# Altium footprint library OpenVizsla footprints.PcbLib: 47 footprints (part 1 of 3)
Each footprint in its own frame and in the unit in brackets; x right, y up, seen from the top. Pads: shape width x height; smd on the part's side, far side on the other; paste and mask are expansions set on the pad; w line width, h text height; cw(c..) or ccw(c..) is an arc to the next point about the centre after c.
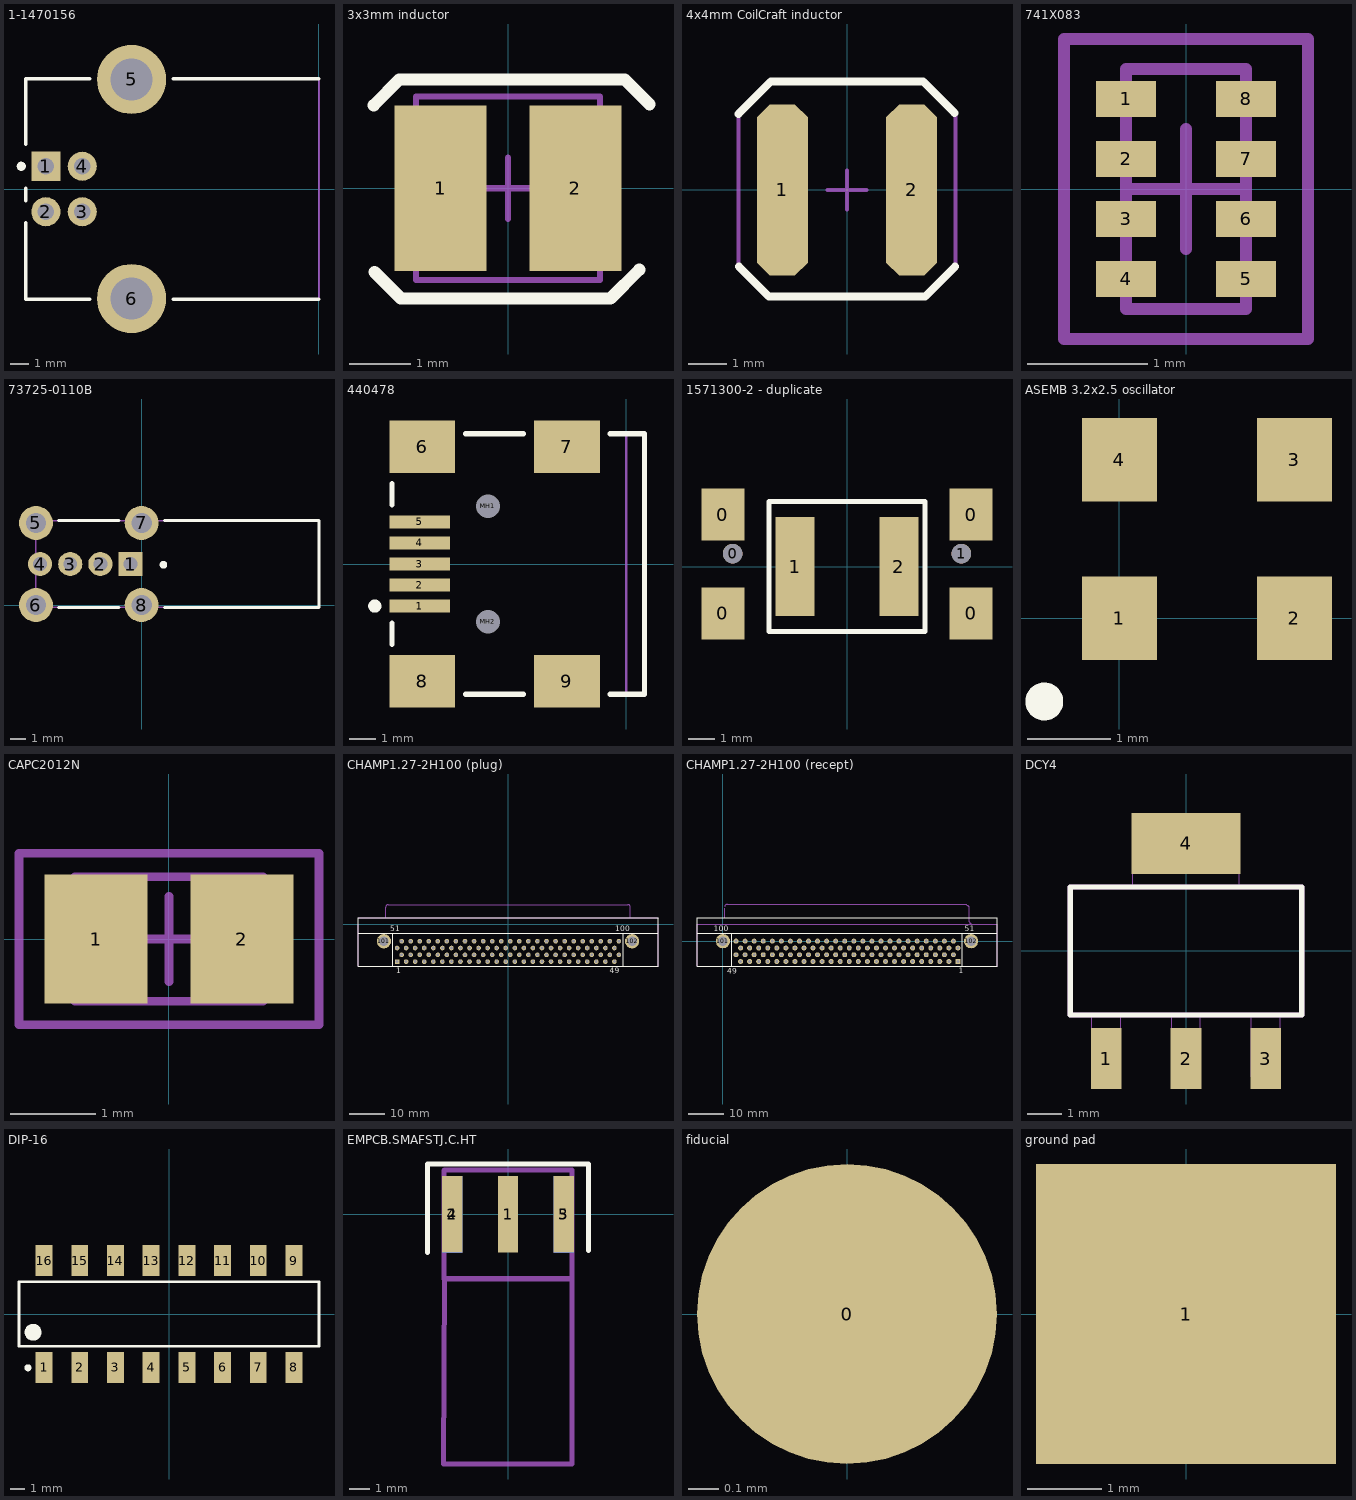
[diagram p0: the footprints below, top view; thin cyan lines are the x and y axes]

## 1-1470156 [mm] "Connector; USB1.1, Type B, Thru-Hole; 4 Position; Right Angle"
height 10.95
pads (6):
  rect 1.6x1.6 hole 0.92: 1(-15.01,1.25)
  round 1.6 hole 0.92: 2(-15.01,-1.25) 3(-13.01,-1.25) 4(-13.01,1.25)
  round 3.8 hole 2.3: 5(-10.3,6.02) 6(-10.3,-6.02)
Top Overlay:
  circle w0.25: c-16.36,1.25 r0.125
  lines w0.2: -16.12,-1.85 -16.12,-6.05 -12.6,-6.05 ; -16.12,-0.65 -16.12,0.05 ; -16.12,2.45 -16.12,6.05 -12.6,6.05 ; -8,-6.05 -0.02,-6.05 ; -8,6.05 -0.02,6.05
Mechanical 1:
  lines w0.1: 0,-6.05 0,6.05
  text "PCB Edge" at -0.325,-5.651 h0.25
3D body: height 11.81, standoff -3.19, extent -15.255,-5.82 0.455,6.44

## 3x3mm inductor [mm] "3x3mm inductor"
height 1.5
pads (2):
  rect 1.5x2.7 smd: 1(-1.1,0) 2(1.1,0)
Top Overlay:
  lines w0.2: -2.194,1.356 -1.775,1.775 1.908,1.775 2.311,1.372 ; -2.181,-1.369 -1.75,-1.8 1.675,-1.8 2.144,-1.331
Mechanical 13:
  lines w0.1: -1.5,-1.5 1.5,-1.5 1.5,1.5 -1.5,1.5 -1.5,-1.5
Mechanical 15:
  lines w0.1: -0.5,0 0.5,0 ; 0,-0.5 0,0.5
3D body: height 3, standoff 0, extent -1.625,-1.425 1.525,1.525

## 4x4mm CoilCraft inductor [mm] "4x4x1.8mm CoilCraft inductor"
height 1.8
pads (2):
  oct 1.3x4.4 smd: 1(-1.66,0) 2(1.66,0)
Top Overlay:
  lines w0.2: -2.794,1.956 -1.956,2.794 1.956,2.794 2.769,1.981 ; -2.781,-1.969 -2.007,-2.743 2.007,-2.743 2.781,-1.969
Mechanical 13:
  lines w0.1: -2.794,-1.93 -1.981,-2.743 2.007,-2.743 2.794,-1.956 2.794,1.956 1.956,2.794 -1.981,2.794 -2.794,1.981 -2.794,-1.93
Mechanical 15:
  lines w0.1: -0.5,0 0.5,0 ; 0,-0.5 0,0.5
3D body: height 3, standoff 0, extent -2.794,-2.769 2.794,2.819

## 741X083 [mm] "741X083 quad resistor array 2mm x 1mm"
height 1
pads (8):
  rect 0.5x0.3 smd mask+0: 1(-0.5,0.75) 2(-0.5,0.25) 3(-0.5,-0.25) 4(-0.5,-0.75) 5(0.5,-0.75) 6(0.5,-0.25) 7(0.5,0.25) 8(0.5,0.75)
Mechanical 13:
  lines w0.1: -0.5,-1 0.5,-1 0.5,1 -0.5,1 -0.5,-1
Mechanical 15:
  lines w0.1: -0.5,0 0.5,0 ; 0,-0.5 0,0.5 ; -1.016,-1.25 1.016,-1.25 1.016,1.25 -1.016,1.25 -1.016,-1.25
3D body: height 1, standoff 0, extent -0.5,-1 0.5,1

## 73725-0110B [mm] "Connector; USB2.0, Type A, Thru-Hole; 4 Position; Right Angle; Vertical"
height 12.6
pads (8):
  rect 1.6x1.6 hole 0.92: 1(-0.73,2.72)
  round 1.6 hole 0.92: 2(-2.73,2.72) 3(-4.73,2.72) 4(-6.73,2.72)
  round 2.25 hole 1.35: 5(-7,5.44) 6(-7,0) 7(0,5.44) 8(0,0)
Top Overlay:
  circle w0.25: c1.446,2.669 r0.125
  lines w0.2: -5.49,-0.16 -1.51,-0.16 ; -5.49,5.6 -1.51,5.6 ; 1.51,-0.16 11.76,-0.16 11.76,5.6 1.51,5.6
Mechanical 13:
  lines w0.1: -7,-0.16 11.76,-0.16 11.76,5.6 -7,5.6 -7,-0.16
3D body: height 13.45, standoff -4.36, extent -7.894,-0.795 11.806,6.325

## 440478 [mm] "Connector; USB2.0, Type A, SM; 5 Position; Right Angle"
height 3.9
pads (11):
  rect 2.3x0.5 smd: 1(-7.85,-1.6) 2(-7.85,-0.8) 3(-7.85,0) 4(-7.85,0.8) 5(-7.85,1.6)
  rect 2.5x2 smd: 6(-7.75,4.45) 7(-2.25,4.45) 8(-7.75,-4.45) 9(-2.25,-4.45)
  round 0.6 hole 0.9 unplated: MH1(-5.25,2.2) MH2(-5.25,-2.2)
Top Overlay:
  circle w0.25: c-9.55,-1.6 r0.125
  lines w0.2: -8.9,-3.05 -8.9,-2.25 ; -8.9,2.25 -8.9,3.05 ; -6.1,-4.95 -3.9,-4.95 ; -6.1,4.95 -3.9,4.95 ; -0.6,-4.95 0.7,-4.95 0.7,4.95 -0.6,4.95
Mechanical 1:
  lines w0.1: 0,-4.95 0,4.95
  text "PCB Edge" at 0.432,-4.036 h0.25
3D body: height 4.14, standoff 0, extent -9.01,-5 0.19,4.9

## 1571300-2 - duplicate [mm]
pads (8):
  rect 1.65x2 smd: 0(-4.77,-1.8) 0(-4.77,2) 0(4.77,2) 0(4.77,-1.8)
  round 0.75 hole 0.75 unplated: 0(-4.4,0.5) 1(4.4,0.5)
  rect 1.5x3.8 smd: 1(-2,0) 2(2,0)
Top Overlay:
  lines w0.2: -3,-2.5 -3,0 -3,2.5 3,2.5 3,-2.5 -3,-2.5
3D body: height 0.3, standoff -8.3, extent -4.95,-6 4.75,2.2

## ASEMB 3.2x2.5 oscillator [mm]
height 0.85
pads (4):
  rect 0.9x1 smd: 1(0,0) 2(2.1,0) 3(2.1,1.9) 4(0,1.9)
Top Overlay:
  circle w0.254: c-0.9,-1 r0.1

## CAPC2012N [mm] "Chip Capacitor, Body 2.0x1.3mm, IPC Medium Density"
height 1.1
pads (2):
  rect 1.2x1.5 smd: 1(-0.85,0) 2(0.85,0)
Mechanical 13:
  lines w0.1: -1.1,-0.725 1.1,-0.725 1.1,0.725 -1.1,0.725 -1.1,-0.725
Mechanical 15:
  lines w0.1: -0.5,0 0.5,0 ; 0,-0.5 0,0.5 ; -1.75,-1 1.75,-1 1.75,1 -1.75,1 -1.75,-1
3D body: height 1.1, standoff 0, extent -1.1,-0.725 1.1,0.725

## CHAMP1.27-2H100 (plug) [mm] "Connector; CHAMP Miniature Ribbon 050 Series II; 100 Position; Right Angle"
height 9.6
pads (102):
  rect 1.3x1.3 hole 0.8: 1(-31.115,-10.5)
  round 1.3 hole 0.8: 2(-29.845,-8.595) 3(-28.575,-10.5) 4(-27.305,-8.595) 5(-26.035,-10.5) 6(-24.765,-8.595) 7(-23.495,-10.5) 8(-22.225,-8.595) 9(-20.955,-10.5) 10(-19.685,-8.595) 11(-18.415,-10.5) 12(-17.145,-8.595) 13(-15.875,-10.5) 14(-14.605,-8.595) 15(-13.335,-10.5) 16(-12.065,-8.595) 17(-10.795,-10.5) 18(-9.525,-8.595) 19(-8.255,-10.5) 20(-6.985,-8.595) 21(-5.715,-10.5) 22(-4.445,-8.595) 23(-3.175,-10.5) 24(-1.905,-8.595) 25(-0.635,-10.5) 26(0.635,-8.595) 27(1.905,-10.5) 28(3.175,-8.595) 29(4.445,-10.5) 30(5.715,-8.595) 31(6.985,-10.5) 32(8.255,-8.595) 33(9.525,-10.5) 34(10.795,-8.595) 35(12.065,-10.5) 36(13.335,-8.595) 37(14.605,-10.5) 38(15.875,-8.595) 39(17.145,-10.5) 40(18.415,-8.595) 41(19.685,-10.5) 42(20.955,-8.595) 43(22.225,-10.5) 44(23.495,-8.595) 45(24.765,-10.5) 46(26.035,-8.595) 47(27.305,-10.5) 48(28.575,-8.595) 49(29.845,-10.5) 50(31.115,-8.595) 51(-31.115,-6.69) 52(-29.845,-4.785) 53(-28.575,-6.69) 54(-27.305,-4.785) 55(-26.035,-6.69) 56(-24.765,-4.785) 57(-23.495,-6.69) 58(-22.225,-4.785) 59(-20.955,-6.69) 60(-19.685,-4.785) 61(-18.415,-6.69) 62(-17.145,-4.785) 63(-15.875,-6.69) 64(-14.605,-4.785) 65(-13.335,-6.69) 66(-12.065,-4.785) 67(-10.795,-6.69) 68(-9.525,-4.785) 69(-8.255,-6.69) 70(-6.985,-4.785) 71(-5.715,-6.69) 72(-4.445,-4.785) 73(-3.175,-6.69) 74(-1.905,-4.785) 75(-0.635,-6.69) 76(0.635,-4.785) 77(1.905,-6.69) 78(3.175,-4.785) 79(4.445,-6.69) 80(5.715,-4.785) 81(6.985,-6.69) 82(8.255,-4.785) 83(9.525,-6.69) 84(10.795,-4.785) 85(12.065,-6.69) 86(13.335,-4.785) 87(14.605,-6.69) 88(15.875,-4.785) 89(17.145,-6.69) 90(18.415,-4.785) 91(19.685,-6.69) 92(20.955,-4.785) 93(22.225,-6.69) 94(23.495,-4.785) 95(24.765,-6.69) 96(26.035,-4.785) 97(27.305,-6.69) 98(28.575,-4.785) 99(29.845,-6.69) 100(31.115,-4.785)
  round 4 hole 2.6: 101(-34.815,-4.785) 102(34.815,-4.785)
Top Overlay:
  lines w0.2: -42.075,-2.5 42.075,-2.5 ; -32.367,-11.8 -32.367,-2.58 ; 32.367,-11.8 32.367,-2.5 ; -42.075,-11.8 -42.075,1.815 42.075,1.815 42.075,-11.8 -42.075,-11.8
  text "1" at -31.365,-13.775 h1.5
  text "49" at 28.595,-13.775 h1.5
  text "100" at 30.115,-2.025 h1.5
  text "51" at -32.99,-2.025 h1.5
Mechanical 13:
  lines w0.1: -42.075,-2.5 42.075,-2.5 ; -42.075,0 -42.075,-11.8 42.075,-11.8 42.075,0 ; -42.075,1.815 42.075,1.815 ; -37.2,1.815 37.2,1.815 ; -34.315,1.815 -34.315,4.754 ; -34.31,4.759 cw(c-33.615,4.759) -33.615,5.454 33.615,5.454 ; 33.63,5.454 cw(c33.63,4.759) 34.325,4.759 ; 34.33,1.815 34.33,4.754
3D body: height 7.5, standoff -3.1, extent -36.6,-11.88 36.83,5.58

## CHAMP1.27-2H100 (recept) [mm] "Connector; CHAMP Miniature Ribbon 050 Series II; 100 Position; Right Angle"
height 9.6
pads (102):
  rect 1.4x1.4 hole 0.8: 1(65.93,-5.715)
  round 1.4 hole 0.8: 2(64.66,-3.81) 3(63.39,-5.715) 4(62.12,-3.81) 5(60.85,-5.715) 6(59.58,-3.81) 7(58.31,-5.715) 8(57.04,-3.81) 9(55.77,-5.715) 10(54.5,-3.81) 11(53.23,-5.715) 12(51.96,-3.81) 13(50.69,-5.715) 14(49.42,-3.81) 15(48.15,-5.715) 16(46.88,-3.81) 17(45.61,-5.715) 18(44.34,-3.81) 19(43.07,-5.715) 20(41.8,-3.81) 21(40.53,-5.715) 22(39.26,-3.81) 23(37.99,-5.715) 24(36.72,-3.81) 25(35.45,-5.715) 26(34.18,-3.81) 27(32.91,-5.715) 28(31.64,-3.81) 29(30.37,-5.715) 30(29.1,-3.81) 31(27.83,-5.715) 32(26.56,-3.81) 33(25.29,-5.715) 34(24.02,-3.81) 35(22.75,-5.715) 36(21.48,-3.81) 37(20.21,-5.715) 38(18.94,-3.81) 39(17.67,-5.715) 40(16.4,-3.81) 41(15.13,-5.715) 42(13.86,-3.81) 43(12.59,-5.715) 44(11.32,-3.81) 45(10.05,-5.715) 46(8.78,-3.81) 47(7.51,-5.715) 48(6.24,-3.81) 49(4.97,-5.715) 50(3.7,-3.81) 51(65.93,-1.905) 52(64.66,0) 53(63.39,-1.905) 54(62.12,0) 55(60.85,-1.905) 56(59.58,0) 57(58.31,-1.905) 58(57.04,0) 59(55.77,-1.905) 60(54.5,0) 61(53.23,-1.905) 62(51.96,0) 63(50.69,-1.905) 64(49.42,0) 65(48.15,-1.905) 66(46.88,0) 67(45.61,-1.905) 68(44.34,0) 69(43.07,-1.905) 70(41.8,0) 71(40.53,-1.905) 72(39.26,0) 73(37.99,-1.905) 74(36.72,0) 75(35.45,-1.905) 76(34.18,0) 77(32.91,-1.905) 78(31.64,0) 79(30.37,-1.905) 80(29.1,0) 81(27.83,-1.905) 82(26.56,0) 83(25.29,-1.905) 84(24.02,0) 85(22.75,-1.905) 86(21.48,0) 87(20.21,-1.905) 88(18.94,0) 89(17.67,-1.905) 90(16.4,0) 91(15.13,-1.905) 92(13.86,0) 93(12.59,-1.905) 94(11.32,0) 95(10.05,-1.905) 96(8.78,0) 97(7.51,-1.905) 98(6.24,0) 99(4.97,-1.905) 100(3.7,0)
  round 4 hole 2.6: 101(0,0) 102(69.63,0)
Top Overlay:
  lines w0.2: -7.26,2.285 76.89,2.285 ; 2.448,-7.015 2.448,2.285 ; 67.182,-7.015 67.182,2.205 ; -7.26,-7.015 76.89,-7.015 76.89,6.6 -7.26,6.6 -7.26,-7.015
  text "51" at 67.805,2.76 h1.5
  text "100" at -2.523,2.753 h1.5
  text "49" at 1.287,-9.185 h1.5
  text "1" at 66.18,-8.99 h1.5
Mechanical 13:
  lines w0.1: -7.26,2.285 76.89,2.285 ; -2.385,4.785 72.015,4.785 ; 0.5,6.6 0.5,9.285 ; 0.505,9.6 cw(c1.2,9.6) 1.2,10.295 ; 1.2,10.4 68.43,10.4 ; 68.445,9.985 cw(c68.445,9.29) 69.14,9.29 ; 69.145,9.285 69.145,5.485 ccw(c69.84,5.485) 69.84,4.79 ; -7.26,-7.015 -7.26,4.785 76.89,4.785 76.89,-7.015 -7.26,-7.015
3D body: height 7.52, standoff -3.08, extent -1.785,-7.095 71.645,10.365

## DCY4 [mil]
height 67
pads (4):
  rect 35x69.5 smd: 1(-91,-122.75) 2(0,-122.75) 3(91,-122.75)
  rect 124x69.5 smd: 4(0,122.75)
Top Overlay:
  lines w6: -132,-73 132,-73 132,73 -132,73 -132,-73
Mechanical 1:
  lines w0: -132,-73 132,-73 132,73 -132,73 -132,-73 ; -107.5,-143.5 -107.5,-73 -74.5,-73 -74.5,-143.5 -107.5,-143.5 ; -61,73 61,73 61,143.5 -61,143.5 -61,73 ; -16.5,-143.5 -16.5,-73 16.5,-73 16.5,-143.5 -16.5,-143.5 ; 74.5,-143.5 74.5,-73 107.5,-73 107.5,-143.5 74.5,-143.5
  lines w6: -132,-73 132,-73 132,73 -132,73 -132,-73
  text "67" at 0,0 h50

## DIP-16 [mm] "DIP; 16 Trim Leads; Row Spacing 7.62 mm; Pitch 2.54 mm"
height 5.58
pads (16):
  rect 1.2x2.2 smd: 1(-8.89,-3.8) 2(-6.35,-3.8) 3(-3.81,-3.8) 4(-1.27,-3.8) 5(1.27,-3.8) 6(3.81,-3.8) 7(6.35,-3.8) 8(8.89,-3.8) 9(8.89,3.8) 10(6.35,3.8) 11(3.81,3.8) 12(1.27,3.8) 13(-1.27,3.8) 14(-3.81,3.8) 15(-6.35,3.8) 16(-8.89,3.8)
Top Overlay:
  circle w0.6: c-9.675,-1.3 r0.3
  circle w0.25: c-10.04,-3.827 r0.125
  lines w0.2: -10.675,-2.3 -10.675,2.3 10.675,2.3 10.675,-2.3 -10.675,-2.3

## EMPCB.SMAFSTJ.C.HT [mm]
pads (5):
  rect 1x3.8 smd: 1(0,0) 2(-2.77,0) 3(2.77,0)
  rect 1x3.8 smd far side: 4(-2.77,0) 5(2.77,0)
Top Overlay:
  lines w0.254: -4,-1.9 -4,2.5 4,2.5 4,-1.8
Bottom Overlay:
  lines w0.254: -4,-1.9 -4,2.5 4,2.5 4,-1.8
Mechanical 11:
  lines w0.254: -3.175,-3.2 -3.175,2.175 -3.15,2.2 3.175,2.2 3.175,-3.2 ; 3.175,-3.2 -3.15,-3.2 -3.203,-12.4 3.175,-12.4 3.175,-3.2

## fiducial [mm]
pads (1):
  round 1 smd paste-1 mask+0.5: 0(0,0)

## ground pad [mil]
pads (1):
  rect 160x160 smd: 1(0,0)